# Altium schematic symbol library 变压器.SchLib: 2 symbols
Pins are listed as number, name and electrical type; pins without a type are passive.

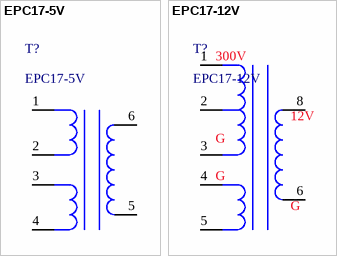
[diagram p0: symbols EPC17-5V to EPC17-12V]

## EPC17-5V
designator T?
12V 高频变压器; 版权归属: 源创客; ROM名称: 12V 高频变压器; 学习资源: www.ooocke.com
footprint EPC17-10V 5+5 (磁芯17mm，高10mm，脚距3mm，)
pins: 1, 2, 3, 4, 5, 6

## EPC17-12V
designator T?
12V 高频变压器; 版权归属: 源创客; ROM名称: 12V 高频变压器; 学习资源: www.ooocke.com
footprint EPC17-10V 5+5 (磁芯17mm，高10mm，脚距3mm，)
pins: 1, 2, 3, 4, 5, 6, 8
text: 300V; 12V; G